# Altium schematic symbol library Converter_DCDC.SchLib: 947 symbols (part 7 of 12)
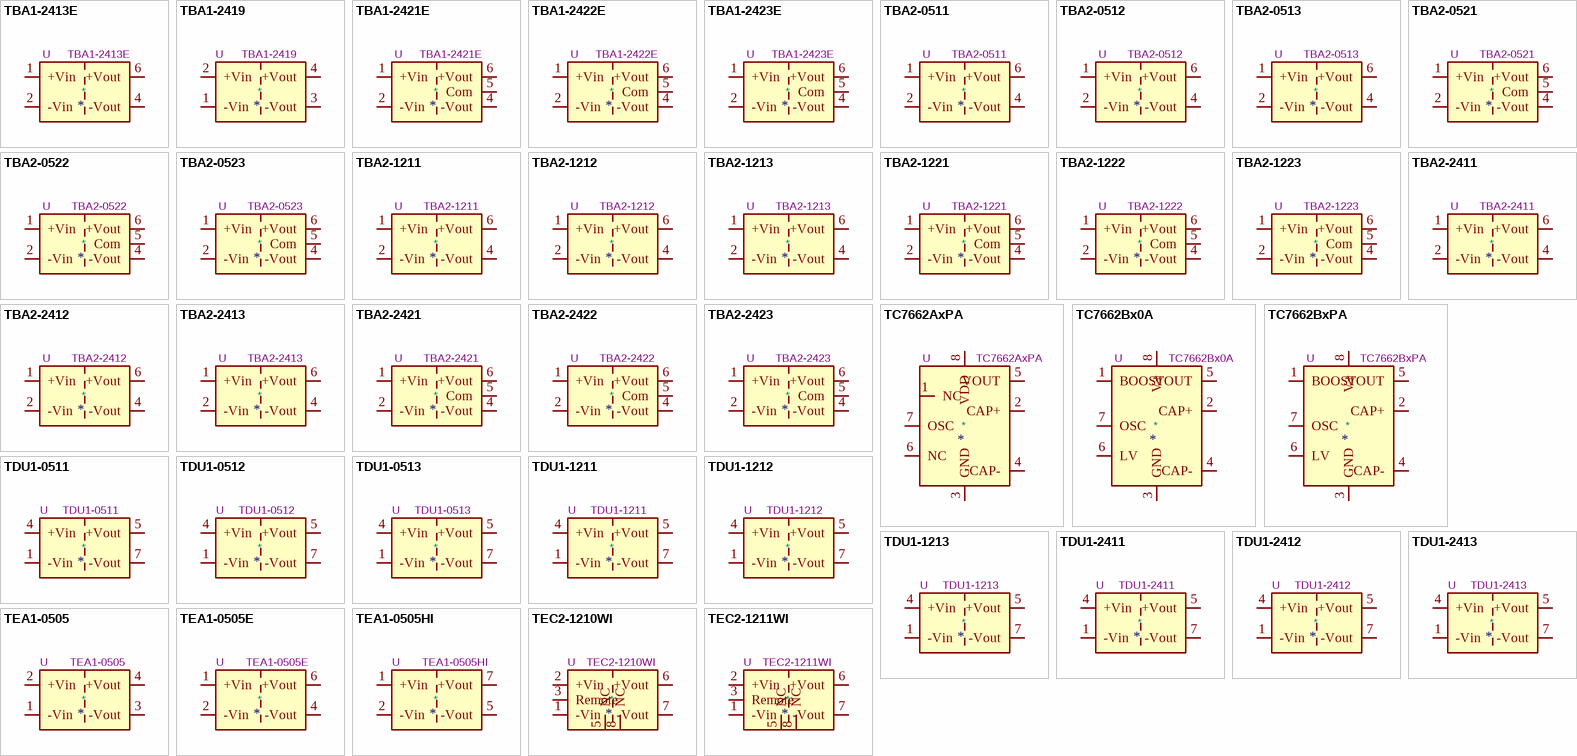
[diagram p29: symbols TBA1-2413E to TEC2-1211WI]

## TBA2-0511
designator *  value TBA2-0511  Reference: U
2W DC/DC converter unregulated, 4.5-5.5V input, 5V fixed output voltage, 400mA output, 1.5kVDC isolation, SIP-7; ki_keywords: Traco isolated isolation dc-dc converter not-regulated non-regulated single 2W; ki_fp_filters: Converter*DCDC*TRACO*TBA2*Single*; Footprint: Converter_DCDC:Converter_DCDC_TRACO_TBA2-xxxx_Single_THT; Datasheet: https://www.tracopower.com/products/tba2.pdf; Description_: 2W DC/DC converter unregulated, 4.5-5.5V input, 5V fixed output voltage, 400mA output, 1.5kVDC isolation, SIP-7
pins: 1 +Vin, 2 -Vin, 4 -Vout, 6 +Vout

## TBA2-0512
designator *  value TBA2-0512  Reference: U
2W DC/DC converter unregulated, 4.5-5.5V input, 12V fixed output voltage, 165mA output, 1.5kVDC isolation, SIP-7; ki_keywords: Traco isolated isolation dc-dc converter not-regulated non-regulated single 2W; ki_fp_filters: Converter*DCDC*TRACO*TBA2*Single*; Footprint: Converter_DCDC:Converter_DCDC_TRACO_TBA2-xxxx_Single_THT; Datasheet: https://www.tracopower.com/products/tba2.pdf; Description_: 2W DC/DC converter unregulated, 4.5-5.5V input, 12V fixed output voltage, 165mA output, 1.5kVDC isolation, SIP-7
pins: 1 +Vin, 2 -Vin, 4 -Vout, 6 +Vout

## TBA2-0513
designator *  value TBA2-0513  Reference: U
2W DC/DC converter unregulated, 4.5-5.5V input, 15V fixed output voltage, 130mA output, 1.5kVDC isolation, SIP-7; ki_keywords: Traco isolated isolation dc-dc converter not-regulated non-regulated single 2W; ki_fp_filters: Converter*DCDC*TRACO*TBA2*Single*; Footprint: Converter_DCDC:Converter_DCDC_TRACO_TBA2-xxxx_Single_THT; Datasheet: https://www.tracopower.com/products/tba2.pdf; Description_: 2W DC/DC converter unregulated, 4.5-5.5V input, 15V fixed output voltage, 130mA output, 1.5kVDC isolation, SIP-7
pins: 1 +Vin, 2 -Vin, 4 -Vout, 6 +Vout

## TBA2-0521
designator *  value TBA2-0521  Reference: U
2W DC/DC converter unregulated, 4.5-5.5V input, ±5V fixed output voltage, 200mA each output, 1.5kVDC isolation, SIP-7; ki_keywords: Traco isolated isolation dc-dc DC/DC converter not-regulated non-regulated dual 2W; ki_fp_filters: Converter*DCDC*TRACO*TBA2*Dual*; Footprint: Converter_DCDC:Converter_DCDC_TRACO_TBA2-xxxx_Dual_THT; Datasheet: https://www.tracopower.com/products/tba2.pdf; Description_: 2W DC/DC converter unregulated, 4.5-5.5V input, ±5V fixed output voltage, 200mA each output, 1.5kVDC isolation, SIP-7
pins: 1 +Vin, 2 -Vin, 4 -Vout, 5 Com, 6 +Vout

## TBA2-0522
designator *  value TBA2-0522  Reference: U
2W DC/DC converter unregulated, 4.5-5.5V input, ±12V fixed output voltage, 80mA each output, 1.5kVDC isolation, SIP-7; ki_keywords: Traco isolated isolation dc-dc DC/DC converter not-regulated non-regulated dual 2W; ki_fp_filters: Converter*DCDC*TRACO*TBA2*Dual*; Footprint: Converter_DCDC:Converter_DCDC_TRACO_TBA2-xxxx_Dual_THT; Datasheet: https://www.tracopower.com/products/tba2.pdf; Description_: 2W DC/DC converter unregulated, 4.5-5.5V input, ±12V fixed output voltage, 80mA each output, 1.5kVDC isolation, SIP-7
pins: 1 +Vin, 2 -Vin, 4 -Vout, 5 Com, 6 +Vout

## TBA2-0523
designator *  value TBA2-0523  Reference: U
2W DC/DC converter unregulated, 4.5-5.5V input, ±15V fixed output voltage, 65mA each output, 1.5kVDC isolation, SIP-7; ki_keywords: Traco isolated isolation dc-dc DC/DC converter not-regulated non-regulated dual 2W; ki_fp_filters: Converter*DCDC*TRACO*TBA2*Dual*; Footprint: Converter_DCDC:Converter_DCDC_TRACO_TBA2-xxxx_Dual_THT; Datasheet: https://www.tracopower.com/products/tba2.pdf; Description_: 2W DC/DC converter unregulated, 4.5-5.5V input, ±15V fixed output voltage, 65mA each output, 1.5kVDC isolation, SIP-7
pins: 1 +Vin, 2 -Vin, 4 -Vout, 5 Com, 6 +Vout

## TBA2-1211
designator *  value TBA2-1211  Reference: U
2W DC/DC converter unregulated, 10.8-13.2V input, 5V fixed output voltage, 400mA output, 1.5kVDC isolation, SIP-7; ki_keywords: Traco isolated isolation dc-dc converter not-regulated non-regulated single 1W; ki_fp_filters: Converter*DCDC*TRACO*TBA2*Single*; Footprint: Converter_DCDC:Converter_DCDC_TRACO_TBA2-xxxx_Single_THT; Datasheet: https://www.tracopower.com/products/tba2.pdf; Description_: 2W DC/DC converter unregulated, 10.8-13.2V input, 5V fixed output voltage, 400mA output, 1.5kVDC isolation, SIP-7
pins: 1 +Vin, 2 -Vin, 4 -Vout, 6 +Vout

## TBA2-1212
designator *  value TBA2-1212  Reference: U
2W DC/DC converter unregulated, 10.8-13.2V input, 12V fixed output voltage, 165mA output, 1.5kVDC isolation, SIP-7; ki_keywords: Traco isolated isolation dc-dc converter not-regulated non-regulated single 2W; ki_fp_filters: Converter*DCDC*TRACO*TBA2*Single*; Footprint: Converter_DCDC:Converter_DCDC_TRACO_TBA2-xxxx_Single_THT; Datasheet: https://www.tracopower.com/products/tba2.pdf; Description_: 2W DC/DC converter unregulated, 10.8-13.2V input, 12V fixed output voltage, 165mA output, 1.5kVDC isolation, SIP-7
pins: 1 +Vin, 2 -Vin, 4 -Vout, 6 +Vout

## TBA2-1213
designator *  value TBA2-1213  Reference: U
2W DC/DC converter unregulated, 10.8-13.2V input, 15V fixed output voltage, 130mA output, 1.5kVDC isolation, SIP-7; ki_keywords: Traco isolated isolation dc-dc converter not-regulated non-regulated single 2W; ki_fp_filters: Converter*DCDC*TRACO*TBA2*Single*; Footprint: Converter_DCDC:Converter_DCDC_TRACO_TBA2-xxxx_Single_THT; Datasheet: https://www.tracopower.com/products/tba2.pdf; Description_: 2W DC/DC converter unregulated, 10.8-13.2V input, 15V fixed output voltage, 130mA output, 1.5kVDC isolation, SIP-7
pins: 1 +Vin, 2 -Vin, 4 -Vout, 6 +Vout

## TBA2-1221
designator *  value TBA2-1221  Reference: U
2W DC/DC converter unregulated, 10.8-13.2V input, ±5V fixed output voltage, 200mA each output, 1.5kVDC isolation, SIP-7; ki_keywords: Traco isolated isolation dc-dc DC/DC converter not-regulated non-regulated dual 2W; ki_fp_filters: Converter*DCDC*TRACO*TBA2*Dual*; Footprint: Converter_DCDC:Converter_DCDC_TRACO_TBA2-xxxx_Dual_THT; Datasheet: https://www.tracopower.com/products/tba2.pdf; Description_: 2W DC/DC converter unregulated, 10.8-13.2V input, ±5V fixed output voltage, 200mA each output, 1.5kVDC isolation, SIP-7
pins: 1 +Vin, 2 -Vin, 4 -Vout, 5 Com, 6 +Vout

## TBA2-1222
designator *  value TBA2-1222  Reference: U
2W DC/DC converter unregulated, 10.8-13.2V input, ±12V fixed output voltage, 80mA each output, 1.5kVDC isolation, SIP-7; ki_keywords: Traco isolated isolation dc-dc DC/DC converter not-regulated non-regulated dual 2W; ki_fp_filters: Converter*DCDC*TRACO*TBA2*Dual*; Footprint: Converter_DCDC:Converter_DCDC_TRACO_TBA2-xxxx_Dual_THT; Datasheet: https://www.tracopower.com/products/tba2.pdf; Description_: 2W DC/DC converter unregulated, 10.8-13.2V input, ±12V fixed output voltage, 80mA each output, 1.5kVDC isolation, SIP-7
pins: 1 +Vin, 2 -Vin, 4 -Vout, 5 Com, 6 +Vout

## TBA2-1223
designator *  value TBA2-1223  Reference: U
2W DC/DC converter unregulated, 10.8-13.2V input, ±15V fixed output voltage, 65mA each output, 1.5kVDC isolation, SIP-7; ki_keywords: Traco isolated isolation dc-dc DC/DC converter not-regulated non-regulated dual 2W; ki_fp_filters: Converter*DCDC*TRACO*TBA2*Dual*; Footprint: Converter_DCDC:Converter_DCDC_TRACO_TBA2-xxxx_Dual_THT; Datasheet: https://www.tracopower.com/products/tba2.pdf; Description_: 2W DC/DC converter unregulated, 10.8-13.2V input, ±15V fixed output voltage, 65mA each output, 1.5kVDC isolation, SIP-7
pins: 1 +Vin, 2 -Vin, 4 -Vout, 5 Com, 6 +Vout

## TBA2-2411
designator *  value TBA2-2411  Reference: U
2W DC/DC converter unregulated, 21.6-26.4V input, 5V fixed output voltage, 400mA output, 1.5kVDC isolation, SIP-7; ki_keywords: Traco isolated isolation dc-dc converter not-regulated non-regulated single 2W; ki_fp_filters: Converter*DCDC*TRACO*TBA2*Single*; Footprint: Converter_DCDC:Converter_DCDC_TRACO_TBA2-xxxx_Single_THT; Datasheet: https://www.tracopower.com/products/tba2.pdf; Description_: 2W DC/DC converter unregulated, 21.6-26.4V input, 5V fixed output voltage, 400mA output, 1.5kVDC isolation, SIP-7
pins: 1 +Vin, 2 -Vin, 4 -Vout, 6 +Vout

## TBA2-2412
designator *  value TBA2-2412  Reference: U
2W DC/DC converter unregulated, 21.6-26.4V input, 12V fixed output voltage, 165mA output, 1.5kVDC isolation, SIP-7; ki_keywords: Traco isolated isolation dc-dc converter not-regulated non-regulated single 2W; ki_fp_filters: Converter*DCDC*TRACO*TBA2*Single*; Footprint: Converter_DCDC:Converter_DCDC_TRACO_TBA2-xxxx_Single_THT; Datasheet: https://www.tracopower.com/products/tba2.pdf; Description_: 2W DC/DC converter unregulated, 21.6-26.4V input, 12V fixed output voltage, 165mA output, 1.5kVDC isolation, SIP-7
pins: 1 +Vin, 2 -Vin, 4 -Vout, 6 +Vout

## TBA2-2413
designator *  value TBA2-2413  Reference: U
2W DC/DC converter unregulated, 21.6-26.4V input, 15V fixed output voltage, 130mA output, 1.5kVDC isolation, SIP-7; ki_keywords: Traco isolated isolation dc-dc converter not-regulated non-regulated single 2W; ki_fp_filters: Converter*DCDC*TRACO*TBA2*Single*; Footprint: Converter_DCDC:Converter_DCDC_TRACO_TBA2-xxxx_Single_THT; Datasheet: https://www.tracopower.com/products/tba2.pdf; Description_: 2W DC/DC converter unregulated, 21.6-26.4V input, 15V fixed output voltage, 130mA output, 1.5kVDC isolation, SIP-7
pins: 1 +Vin, 2 -Vin, 4 -Vout, 6 +Vout

## TBA2-2421
designator *  value TBA2-2421  Reference: U
2W DC/DC converter unregulated, 21.6-26.4V input, ±5V fixed output voltage, 200mA each output, 1.5kVDC isolation, SIP-7; ki_keywords: Traco isolated isolation dc-dc DC/DC converter not-regulated non-regulated dual 2W; ki_fp_filters: Converter*DCDC*TRACO*TBA2*Dual*; Footprint: Converter_DCDC:Converter_DCDC_TRACO_TBA2-xxxx_Dual_THT; Datasheet: https://www.tracopower.com/products/tba2.pdf; Description_: 2W DC/DC converter unregulated, 21.6-26.4V input, ±5V fixed output voltage, 200mA each output, 1.5kVDC isolation, SIP-7
pins: 1 +Vin, 2 -Vin, 4 -Vout, 5 Com, 6 +Vout

## TBA2-2422
designator *  value TBA2-2422  Reference: U
2W DC/DC converter unregulated, 21.6-26.4V input, ±12V fixed output voltage, 80mA each output, 1.5kVDC isolation, SIP-7; ki_keywords: Traco isolated isolation dc-dc DC/DC converter not-regulated non-regulated dual 2W; ki_fp_filters: Converter*DCDC*TRACO*TBA2*Dual*; Footprint: Converter_DCDC:Converter_DCDC_TRACO_TBA2-xxxx_Dual_THT; Datasheet: https://www.tracopower.com/products/tba2.pdf; Description_: 2W DC/DC converter unregulated, 21.6-26.4V input, ±12V fixed output voltage, 80mA each output, 1.5kVDC isolation, SIP-7
pins: 1 +Vin, 2 -Vin, 4 -Vout, 5 Com, 6 +Vout

## TBA2-2423
designator *  value TBA2-2423  Reference: U
2W DC/DC converter unregulated, 21.6-26.4V input, ±15V fixed output voltage, 65mA each output, 1.5kVDC isolation, SIP-7; ki_keywords: Traco isolated isolation dc-dc DC/DC converter not-regulated non-regulated dual 2W; ki_fp_filters: Converter*DCDC*TRACO*TBA2*Dual*; Footprint: Converter_DCDC:Converter_DCDC_TRACO_TBA2-xxxx_Dual_THT; Datasheet: https://www.tracopower.com/products/tba2.pdf; Description_: 2W DC/DC converter unregulated, 21.6-26.4V input, ±15V fixed output voltage, 65mA each output, 1.5kVDC isolation, SIP-7
pins: 1 +Vin, 2 -Vin, 4 -Vout, 5 Com, 6 +Vout

## TC7662AxPA
designator *  value TC7662AxPA  Reference: U
Charge Pump DC-to-DC Converter, 3 - 18V, 40mA, DIP-8; ki_fp_filters: DIP*W7.62mm*; Footprint: Package_DIP:DIP-8_W7.62mm; Datasheet: http://ww1.microchip.com/downloads/en/DeviceDoc/21468B.pdf; Description_: Charge Pump DC-to-DC Converter, 3 - 18V, 40mA, DIP-8; ki_keywords: charge pump DC-to-DC converter
pins: 1 NC, 2 CAP+, 3 GND, 4 CAP-, 5 VOUT, 6 NC, 7 OSC, 8 VDD

## TC7662Bx0A
designator *  value TC7662Bx0A  Reference: U
Charge Pump DC-to-DC Converter, 1.5 - 15V, 100mA, SOIC-8; ki_fp_filters: SOIC*3.9x4.9mm*P1.27mm*; Footprint: Package_SO:SOIC-8_3.9x4.9mm_P1.27mm; Datasheet: http://ww1.microchip.com/downloads/en/DeviceDoc/21469a.pdf; Description_: Charge Pump DC-to-DC Converter, 1.5 - 15V, 100mA, SOIC-8; ki_keywords: charge pump DC-to-DC converter
pins: 1 BOOST, 2 CAP+, 3 GND, 4 CAP-, 5 VOUT, 6 LV, 7 OSC, 8 V+

## TC7662BxPA
designator *  value TC7662BxPA  Reference: U
Charge Pump DC-to-DC Converter, 1.5 - 15V, 100mA, DIP-8; ki_fp_filters: DIP*W7.62mm*; Footprint: Package_DIP:DIP-8_W7.62mm; Datasheet: http://ww1.microchip.com/downloads/en/DeviceDoc/21469a.pdf; Description_: Charge Pump DC-to-DC Converter, 1.5 - 15V, 100mA, DIP-8; ki_keywords: charge pump DC-to-DC converter
pins: 1 BOOST, 2 CAP+, 3 GND, 4 CAP-, 5 VOUT, 6 LV, 7 OSC, 8 V+

## TDU1-0511
designator *  value TDU1-0511  Reference: U
1W DC/DC converter unregulated, 4.5-5.5V input, 5V output voltage, 200mA output, 1.5kVDC isolation, DIP-8; ki_keywords: Traco isolated isolation dc-dc converter not-regulated non-regulated single 1W; ki_fp_filters: Converter*DCDC*TRACO*TDU1*THT*; Footprint: Converter_DCDC:Converter_DCDC_TRACO_TDU1-xxxx_THT; Datasheet: https://www.tracopower.com/products/tdu1.pdf; Description_: 1W DC/DC converter unregulated, 4.5-5.5V input, 5V output voltage, 200mA output, 1.5kVDC isolation, DIP-8
pins: 1 -Vin, 4 +Vin, 5 +Vout, 7 -Vout

## TDU1-0512
designator *  value TDU1-0512  Reference: U
1W DC/DC converter unregulated, 4.5-5.5V input, 12V output voltage, 84mA output, 1.5kVDC isolation, DIP-8; ki_keywords: Traco isolated isolation dc-dc converter not-regulated non-regulated single 1W; ki_fp_filters: Converter*DCDC*TRACO*TDU1*THT*; Footprint: Converter_DCDC:Converter_DCDC_TRACO_TDU1-xxxx_THT; Datasheet: https://www.tracopower.com/products/tdu1.pdf; Description_: 1W DC/DC converter unregulated, 4.5-5.5V input, 12V output voltage, 84mA output, 1.5kVDC isolation, DIP-8
pins: 1 -Vin, 4 +Vin, 5 +Vout, 7 -Vout

## TDU1-0513
designator *  value TDU1-0513  Reference: U
1W DC/DC converter unregulated, 4.5-5.5V input, 15V output voltage, 67mA output, 1.5kVDC isolation, DIP-8; ki_keywords: Traco isolated isolation dc-dc converter not-regulated non-regulated single 1W; ki_fp_filters: Converter*DCDC*TRACO*TDU1*THT*; Footprint: Converter_DCDC:Converter_DCDC_TRACO_TDU1-xxxx_THT; Datasheet: https://www.tracopower.com/products/tdu1.pdf; Description_: 1W DC/DC converter unregulated, 4.5-5.5V input, 15V output voltage, 67mA output, 1.5kVDC isolation, DIP-8
pins: 1 -Vin, 4 +Vin, 5 +Vout, 7 -Vout

## TDU1-1211
designator *  value TDU1-1211  Reference: U
1W DC/DC converter unregulated, 10.8-13.2V input, 5V output voltage, 200mA output, 1.5kVDC isolation, DIP-8; ki_keywords: Traco isolated isolation dc-dc converter not-regulated non-regulated single 1W; ki_fp_filters: Converter*DCDC*TRACO*TDU1*THT*; Footprint: Converter_DCDC:Converter_DCDC_TRACO_TDU1-xxxx_THT; Datasheet: https://www.tracopower.com/products/tdu1.pdf; Description_: 1W DC/DC converter unregulated, 10.8-13.2V input, 5V output voltage, 200mA output, 1.5kVDC isolation, DIP-8
pins: 1 -Vin, 4 +Vin, 5 +Vout, 7 -Vout

## TDU1-1212
designator *  value TDU1-1212  Reference: U
1W DC/DC converter unregulated, 10.8-13.2V input, 12V output voltage, 84mA output, 1.5kVDC isolation, DIP-8; ki_keywords: Traco isolated isolation dc-dc converter not-regulated non-regulated single 1W; ki_fp_filters: Converter*DCDC*TRACO*TDU1*THT*; Footprint: Converter_DCDC:Converter_DCDC_TRACO_TDU1-xxxx_THT; Datasheet: https://www.tracopower.com/products/tdu1.pdf; Description_: 1W DC/DC converter unregulated, 10.8-13.2V input, 12V output voltage, 84mA output, 1.5kVDC isolation, DIP-8
pins: 1 -Vin, 4 +Vin, 5 +Vout, 7 -Vout

## TDU1-1213
designator *  value TDU1-1213  Reference: U
1W DC/DC converter unregulated, 10.8-13.2V input, 12V output voltage, 84mA output, 1.5kVDC isolation, DIP-8; ki_keywords: Traco isolated isolation dc-dc converter not-regulated non-regulated single 1W; ki_fp_filters: Converter*DCDC*TRACO*TDU1*THT*; Footprint: Converter_DCDC:Converter_DCDC_TRACO_TDU1-xxxx_THT; Datasheet: https://www.tracopower.com/products/tdu1.pdf; Description_: 1W DC/DC converter unregulated, 10.8-13.2V input, 12V output voltage, 84mA output, 1.5kVDC isolation, DIP-8
pins: 1 -Vin, 4 +Vin, 5 +Vout, 7 -Vout

## TDU1-2411
designator *  value TDU1-2411  Reference: U
1W DC/DC converter unregulated, 21.6-26.4V input, 5V output voltage, 200mA output, 1.5kVDC isolation, DIP-8; ki_keywords: Traco isolated isolation dc-dc converter not-regulated non-regulated single 1W; ki_fp_filters: Converter*DCDC*TRACO*TDU1*THT*; Footprint: Converter_DCDC:Converter_DCDC_TRACO_TDU1-xxxx_THT; Datasheet: https://www.tracopower.com/products/tdu1.pdf; Description_: 1W DC/DC converter unregulated, 21.6-26.4V input, 5V output voltage, 200mA output, 1.5kVDC isolation, DIP-8
pins: 1 -Vin, 4 +Vin, 5 +Vout, 7 -Vout

## TDU1-2412
designator *  value TDU1-2412  Reference: U
1W DC/DC converter unregulated, 21.6-26.4V input, 12V output voltage, 84mA output, 1.5kVDC isolation, DIP-8; ki_keywords: Traco isolated isolation dc-dc converter not-regulated non-regulated single 1W; ki_fp_filters: Converter*DCDC*TRACO*TDU1*THT*; Footprint: Converter_DCDC:Converter_DCDC_TRACO_TDU1-xxxx_THT; Datasheet: https://www.tracopower.com/products/tdu1.pdf; Description_: 1W DC/DC converter unregulated, 21.6-26.4V input, 12V output voltage, 84mA output, 1.5kVDC isolation, DIP-8
pins: 1 -Vin, 4 +Vin, 5 +Vout, 7 -Vout

## TDU1-2413
designator *  value TDU1-2413  Reference: U
1W DC/DC converter unregulated, 21.6-26.4V input, 15V output voltage, 67mA output, 1.5kVDC isolation, DIP-8; ki_keywords: Traco isolated isolation dc-dc converter not-regulated non-regulated single 1W; ki_fp_filters: Converter*DCDC*TRACO*TDU1*THT*; Footprint: Converter_DCDC:Converter_DCDC_TRACO_TDU1-xxxx_THT; Datasheet: https://www.tracopower.com/products/tdu1.pdf; Description_: 1W DC/DC converter unregulated, 21.6-26.4V input, 15V output voltage, 67mA output, 1.5kVDC isolation, DIP-8
pins: 1 -Vin, 4 +Vin, 5 +Vout, 7 -Vout

## TEA1-0505
designator *  value TEA1-0505  Reference: U
1W DC/DC converter unregulated, 4.5-5.5V input, 5V output voltage, 200mA output, 1.5kVDC isolation, SIP-4; ki_keywords: Traco isolated isolation dc-dc converter not-regulated non-regulated single 1W; ki_fp_filters: Converter*DCDC*TRACO*TEA1*THT*; Footprint: Converter_DCDC:Converter_DCDC_TRACO_TEA1-xxxx_THT; Datasheet: https://www.tracopower.com/products/tea1.pdf; Description_: 1W DC/DC converter unregulated, 4.5-5.5V input, 5V output voltage, 200mA output, 1.5kVDC isolation, SIP-4
pins: 1 -Vin, 2 +Vin, 3 -Vout, 4 +Vout

## TEA1-0505E
designator *  value TEA1-0505E  Reference: U
1W DC/DC converter unregulated, 4.5-5.5V input, 5V output voltage, 200mA output, 1.5kVDC isolation, SIP-7; ki_keywords: Traco isolated isolation dc-dc converter not-regulated non-regulated single 1W; ki_fp_filters: Converter*DCDC*TRACO*TEA1*xxxxE*THT*; Footprint: Converter_DCDC:Converter_DCDC_TRACO_TEA1-xxxxE_THT; Datasheet: https://www.tracopower.com/products/tea1e.pdf; Description_: 1W DC/DC converter unregulated, 4.5-5.5V input, 5V output voltage, 200mA output, 1.5kVDC isolation, SIP-7
pins: 1 +Vin, 2 -Vin, 4 -Vout, 6 +Vout

## TEA1-0505HI
designator *  value TEA1-0505HI  Reference: U
1W DC/DC converter unregulated, 4.5-5.5V input, 5V output voltage, 200mA output, 4kVDC isolation, SIP-7; ki_keywords: Traco isolated isolation dc-dc converter not-regulated non-regulated single 1W; ki_fp_filters: Converter*DCDC*TRACO*TEA1*xxxxHI*THT*; Footprint: Converter_DCDC:Converter_DCDC_TRACO_TEA1-xxxxHI_THT; Datasheet: https://www.tracopower.com/products/tea1hi.pdf; Description_: 1W DC/DC converter unregulated, 4.5-5.5V input, 5V output voltage, 200mA output, 4kVDC isolation, SIP-7
pins: 1 +Vin, 2 -Vin, 5 -Vout, 7 +Vout

## TEC2-1210WI
designator *  value TEC2-1210WI  Reference: U
2W DC/DC industrial converter regulated, 4.5-18V input, 3.3V fixed output voltage, 500mA output, 1.6kVDC isolation, SIP-8; ki_keywords: Traco isolated dc-dc 62368-1 single; ki_fp_filters: Converter*DCDC*TRACO*TEC2*12xxWI*24xxWI*48xxWI*THT*; Footprint: Converter_DCDC:Converter_DCDC_TRACO_TEC2-12xxWI_24xxWI_48xxWI_THT; Datasheet: https://www.tracopower.com/products/tec2wi.pdf; Description_: 2W DC/DC industrial converter regulated, 4.5-18V input, 3.3V fixed output voltage, 500mA output, 1.6kVDC isolation, SIP-8
pins: 1 -Vin, 2 +Vin, 3 Remote, 5 NC, 6 +Vout, 7 -Vout, 8 NC

## TEC2-1211WI
designator *  value TEC2-1211WI  Reference: U
2W DC/DC industrial converter regulated, 4.5-18V input, 5V fixed output voltage, 400mA output, 1.6kVDC isolation, SIP-8; ki_keywords: Traco isolated dc-dc 62368-1 single; ki_fp_filters: Converter*DCDC*TRACO*TEC2*12xxWI*24xxWI*48xxWI*THT*; Footprint: Converter_DCDC:Converter_DCDC_TRACO_TEC2-12xxWI_24xxWI_48xxWI_THT; Datasheet: https://www.tracopower.com/products/tec2wi.pdf; Description_: 2W DC/DC industrial converter regulated, 4.5-18V input, 5V fixed output voltage, 400mA output, 1.6kVDC isolation, SIP-8
pins: 1 -Vin, 2 +Vin, 3 Remote, 5 NC, 6 +Vout, 7 -Vout, 8 NC

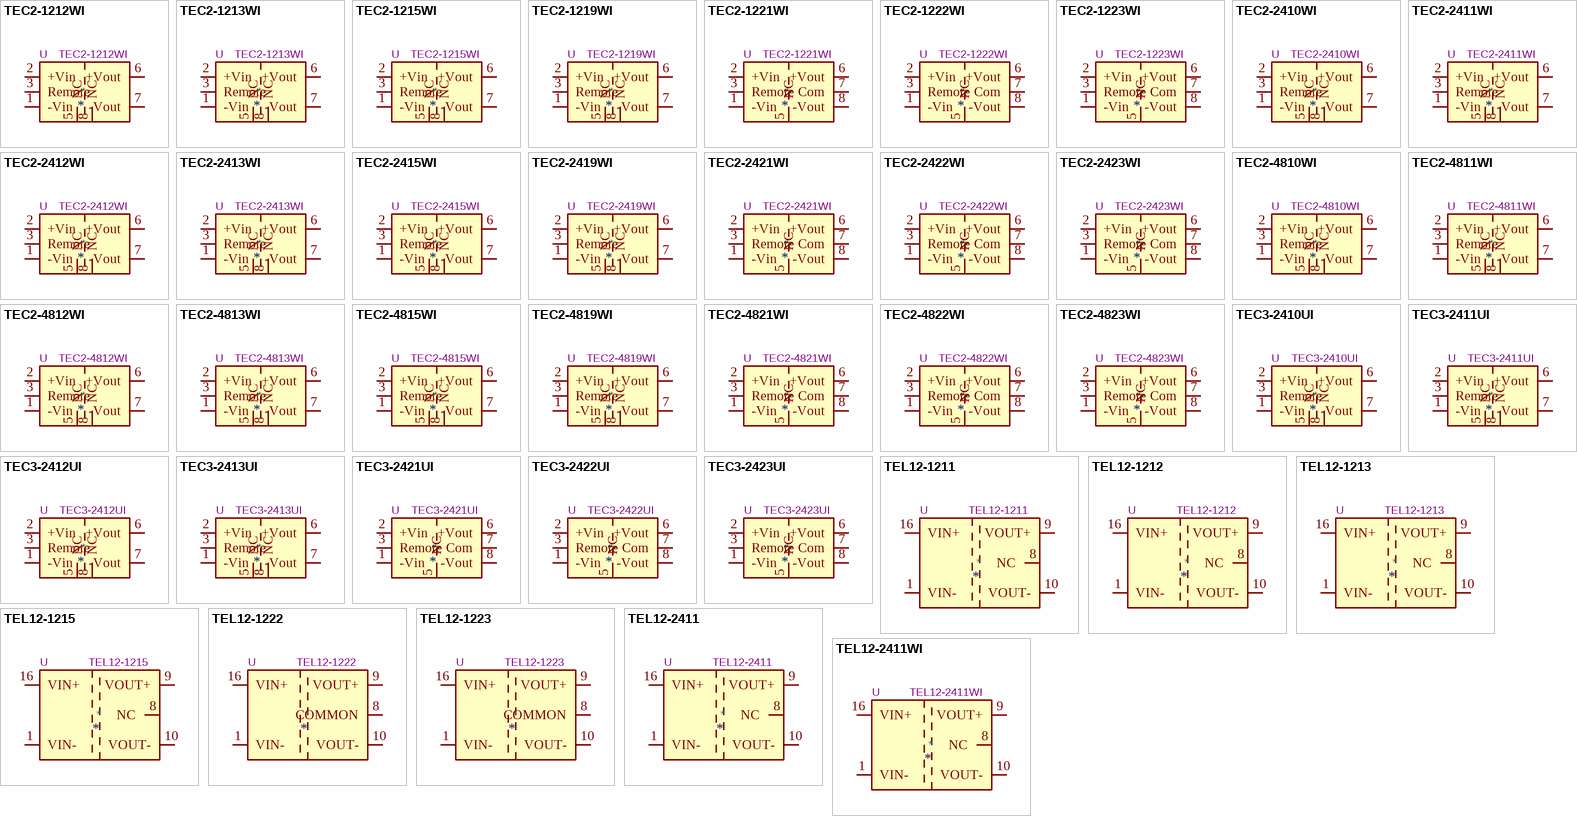
[diagram p14: symbols TEC2-1212WI to TEL12-2411WI]

## TEC2-1212WI
designator *  value TEC2-1212WI  Reference: U
2W DC/DC industrial converter regulated, 4.5-18V input, 12V fixed output voltage, 167mA output, 1.6kVDC isolation, SIP-8; ki_keywords: Traco isolated dc-dc 62368-1 single; ki_fp_filters: Converter*DCDC*TRACO*TEC2*12xxWI*24xxWI*48xxWI*THT*; Footprint: Converter_DCDC:Converter_DCDC_TRACO_TEC2-12xxWI_24xxWI_48xxWI_THT; Datasheet: https://www.tracopower.com/products/tec2wi.pdf; Description_: 2W DC/DC industrial converter regulated, 4.5-18V input, 12V fixed output voltage, 167mA output, 1.6kVDC isolation, SIP-8
pins: 1 -Vin, 2 +Vin, 3 Remote, 5 NC, 6 +Vout, 7 -Vout, 8 NC

## TEC2-1213WI
designator *  value TEC2-1213WI  Reference: U
2W DC/DC industrial converter regulated, 4.5-18V input, 15V fixed output voltage, 134mA output, 1.6kVDC isolation, SIP-8; ki_keywords: Traco isolated dc-dc 62368-1 single; ki_fp_filters: Converter*DCDC*TRACO*TEC2*12xxWI*24xxWI*48xxWI*THT*; Footprint: Converter_DCDC:Converter_DCDC_TRACO_TEC2-12xxWI_24xxWI_48xxWI_THT; Datasheet: https://www.tracopower.com/products/tec2wi.pdf; Description_: 2W DC/DC industrial converter regulated, 4.5-18V input, 15V fixed output voltage, 134mA output, 1.6kVDC isolation, SIP-8
pins: 1 -Vin, 2 +Vin, 3 Remote, 5 NC, 6 +Vout, 7 -Vout, 8 NC

## TEC2-1215WI
designator *  value TEC2-1215WI  Reference: U
2W DC/DC industrial converter regulated, 4.5-18V input, 3.3V fixed output voltage, 83mA output, 1.6kVDC isolation, SIP-8; ki_keywords: Traco isolated dc-dc 62368-1 single; ki_fp_filters: Converter*DCDC*TRACO*TEC2*12xxWI*24xxWI*48xxWI*THT*; Footprint: Converter_DCDC:Converter_DCDC_TRACO_TEC2-12xxWI_24xxWI_48xxWI_THT; Datasheet: https://www.tracopower.com/products/tec2wi.pdf; Description_: 2W DC/DC industrial converter regulated, 4.5-18V input, 3.3V fixed output voltage, 83mA output, 1.6kVDC isolation, SIP-8
pins: 1 -Vin, 2 +Vin, 3 Remote, 5 NC, 6 +Vout, 7 -Vout, 8 NC

## TEC2-1219WI
designator *  value TEC2-1219WI  Reference: U
2W DC/DC industrial converter regulated, 4.5-18V input, 9V fixed output voltage, 222mA output, 1.6kVDC isolation, SIP-8; ki_keywords: Traco isolated dc-dc 62368-1 single; ki_fp_filters: Converter*DCDC*TRACO*TEC2*12xxWI*24xxWI*48xxWI*THT*; Footprint: Converter_DCDC:Converter_DCDC_TRACO_TEC2-12xxWI_24xxWI_48xxWI_THT; Datasheet: https://www.tracopower.com/products/tec2wi.pdf; Description_: 2W DC/DC industrial converter regulated, 4.5-18V input, 9V fixed output voltage, 222mA output, 1.6kVDC isolation, SIP-8
pins: 1 -Vin, 2 +Vin, 3 Remote, 5 NC, 6 +Vout, 7 -Vout, 8 NC

## TEC2-1221WI
designator *  value TEC2-1221WI  Reference: U
2W DC/DC industrial converter regulated, 4.5-18V input, ±5V fixed output voltage, 200mA each output, 1.6kVDC isolation, SIP-8; ki_keywords: Traco isolated dc-dc 62368-1 dual; ki_fp_filters: Converter*DCDC*TRACO*TEC2*12xxWI*24xxWI*48xxWI*THT*; Footprint: Converter_DCDC:Converter_DCDC_TRACO_TEC2-12xxWI_24xxWI_48xxWI_THT; Datasheet: https://www.tracopower.com/products/tec2wi.pdf; Description_: 2W DC/DC industrial converter regulated, 4.5-18V input, ±5V fixed output voltage, 200mA each output, 1.6kVDC isolation, SIP-8
pins: 1 -Vin, 2 +Vin, 3 Remote, 5 NC, 6 +Vout, 7 Com, 8 -Vout

## TEC2-1222WI
designator *  value TEC2-1222WI  Reference: U
2W DC/DC industrial converter regulated, 4.5-18V input, ±12V fixed output voltage, 83mA each output, 1.6kVDC isolation, SIP-8; ki_keywords: Traco isolated dc-dc 62368-1 dual; ki_fp_filters: Converter*DCDC*TRACO*TEC2*12xxWI*24xxWI*48xxWI*THT*; Footprint: Converter_DCDC:Converter_DCDC_TRACO_TEC2-12xxWI_24xxWI_48xxWI_THT; Datasheet: https://www.tracopower.com/products/tec2wi.pdf; Description_: 2W DC/DC industrial converter regulated, 4.5-18V input, ±12V fixed output voltage, 83mA each output, 1.6kVDC isolation, SIP-8
pins: 1 -Vin, 2 +Vin, 3 Remote, 5 NC, 6 +Vout, 7 Com, 8 -Vout

## TEC2-1223WI
designator *  value TEC2-1223WI  Reference: U
2W DC/DC industrial converter regulated, 4.5-18V input, ±15V fixed output voltage, 67mA each output, 1.6kVDC isolation, SIP-8; ki_keywords: Traco isolated dc-dc 62368-1 dual; ki_fp_filters: Converter*DCDC*TRACO*TEC2*12xxWI*24xxWI*48xxWI*THT*; Footprint: Converter_DCDC:Converter_DCDC_TRACO_TEC2-12xxWI_24xxWI_48xxWI_THT; Datasheet: https://www.tracopower.com/products/tec2wi.pdf; Description_: 2W DC/DC industrial converter regulated, 4.5-18V input, ±15V fixed output voltage, 67mA each output, 1.6kVDC isolation, SIP-8
pins: 1 -Vin, 2 +Vin, 3 Remote, 5 NC, 6 +Vout, 7 Com, 8 -Vout

## TEC2-2410WI
designator *  value TEC2-2410WI  Reference: U
2W DC/DC industrial converter regulated, 9-36V input, 3.3V fixed output voltage, 500mA output, 1.6kVDC isolation, SIP-8; ki_keywords: Traco isolated dc-dc 62368-1 single; ki_fp_filters: Converter*DCDC*TRACO*TEC2*12xxWI*24xxWI*48xxWI*THT*; Footprint: Converter_DCDC:Converter_DCDC_TRACO_TEC2-12xxWI_24xxWI_48xxWI_THT; Datasheet: https://www.tracopower.com/products/tec2wi.pdf; Description_: 2W DC/DC industrial converter regulated, 9-36V input, 3.3V fixed output voltage, 500mA output, 1.6kVDC isolation, SIP-8
pins: 1 -Vin, 2 +Vin, 3 Remote, 5 NC, 6 +Vout, 7 -Vout, 8 NC

## TEC2-2411WI
designator *  value TEC2-2411WI  Reference: U
2W DC/DC industrial converter regulated, 9-36V input, 5V fixed output voltage, 400mA output, 1.6kVDC isolation, SIP-8; ki_keywords: Traco isolated dc-dc 62368-1 single; ki_fp_filters: Converter*DCDC*TRACO*TEC2*12xxWI*24xxWI*48xxWI*THT*; Footprint: Converter_DCDC:Converter_DCDC_TRACO_TEC2-12xxWI_24xxWI_48xxWI_THT; Datasheet: https://www.tracopower.com/products/tec2wi.pdf; Description_: 2W DC/DC industrial converter regulated, 9-36V input, 5V fixed output voltage, 400mA output, 1.6kVDC isolation, SIP-8
pins: 1 -Vin, 2 +Vin, 3 Remote, 5 NC, 6 +Vout, 7 -Vout, 8 NC

## TEC2-2412WI
designator *  value TEC2-2412WI  Reference: U
2W DC/DC industrial converter regulated, 9-36V input, 12V fixed output voltage, 167mA output, 1.6kVDC isolation, SIP-8; ki_keywords: Traco isolated dc-dc 62368-1 single; ki_fp_filters: Converter*DCDC*TRACO*TEC2*12xxWI*24xxWI*48xxWI*THT*; Footprint: Converter_DCDC:Converter_DCDC_TRACO_TEC2-12xxWI_24xxWI_48xxWI_THT; Datasheet: https://www.tracopower.com/products/tec2wi.pdf; Description_: 2W DC/DC industrial converter regulated, 9-36V input, 12V fixed output voltage, 167mA output, 1.6kVDC isolation, SIP-8
pins: 1 -Vin, 2 +Vin, 3 Remote, 5 NC, 6 +Vout, 7 -Vout, 8 NC

## TEC2-2413WI
designator *  value TEC2-2413WI  Reference: U
2W DC/DC industrial converter regulated, 9-36V input, 15V fixed output voltage, 134mA output, 1.6kVDC isolation, SIP-8; ki_keywords: Traco isolated dc-dc 62368-1 single; ki_fp_filters: Converter*DCDC*TRACO*TEC2*12xxWI*24xxWI*48xxWI*THT*; Footprint: Converter_DCDC:Converter_DCDC_TRACO_TEC2-12xxWI_24xxWI_48xxWI_THT; Datasheet: https://www.tracopower.com/products/tec2wi.pdf; Description_: 2W DC/DC industrial converter regulated, 9-36V input, 15V fixed output voltage, 134mA output, 1.6kVDC isolation, SIP-8
pins: 1 -Vin, 2 +Vin, 3 Remote, 5 NC, 6 +Vout, 7 -Vout, 8 NC

## TEC2-2415WI
designator *  value TEC2-2415WI  Reference: U
2W DC/DC industrial converter regulated, 9-36V input, 24V fixed output voltage, 83mA output, 1.6kVDC isolation, SIP-8; ki_keywords: Traco isolated dc-dc 62368-1 single; ki_fp_filters: Converter*DCDC*TRACO*TEC2*12xxWI*24xxWI*48xxWI*THT*; Footprint: Converter_DCDC:Converter_DCDC_TRACO_TEC2-12xxWI_24xxWI_48xxWI_THT; Datasheet: https://www.tracopower.com/products/tec2wi.pdf; Description_: 2W DC/DC industrial converter regulated, 9-36V input, 24V fixed output voltage, 83mA output, 1.6kVDC isolation, SIP-8
pins: 1 -Vin, 2 +Vin, 3 Remote, 5 NC, 6 +Vout, 7 -Vout, 8 NC

## TEC2-2419WI
designator *  value TEC2-2419WI  Reference: U
2W DC/DC industrial converter regulated, 9-36V input, 9V fixed output voltage, 222mA output, 1.6kVDC isolation, SIP-8; ki_keywords: Traco isolated dc-dc 62368-1 single; ki_fp_filters: Converter*DCDC*TRACO*TEC2*12xxWI*24xxWI*48xxWI*THT*; Footprint: Converter_DCDC:Converter_DCDC_TRACO_TEC2-12xxWI_24xxWI_48xxWI_THT; Datasheet: https://www.tracopower.com/products/tec2wi.pdf; Description_: 2W DC/DC industrial converter regulated, 9-36V input, 9V fixed output voltage, 222mA output, 1.6kVDC isolation, SIP-8
pins: 1 -Vin, 2 +Vin, 3 Remote, 5 NC, 6 +Vout, 7 -Vout, 8 NC

## TEC2-2421WI
designator *  value TEC2-2421WI  Reference: U
2W DC/DC industrial converter regulated, 9-36V input, ±5V fixed output voltage, 200mA each output, 1.6kVDC isolation, SIP-8; ki_keywords: Traco isolated dc-dc 62368-1 dual; ki_fp_filters: Converter*DCDC*TRACO*TEC2*12xxWI*24xxWI*48xxWI*THT*; Footprint: Converter_DCDC:Converter_DCDC_TRACO_TEC2-12xxWI_24xxWI_48xxWI_THT; Datasheet: https://www.tracopower.com/products/tec2wi.pdf; Description_: 2W DC/DC industrial converter regulated, 9-36V input, ±5V fixed output voltage, 200mA each output, 1.6kVDC isolation, SIP-8
pins: 1 -Vin, 2 +Vin, 3 Remote, 5 NC, 6 +Vout, 7 Com, 8 -Vout

## TEC2-2422WI
designator *  value TEC2-2422WI  Reference: U
2W DC/DC industrial converter regulated, 9-36V input, ±12V fixed output voltage, 83mA each output, 1.6kVDC isolation, SIP-8; ki_keywords: Traco isolated dc-dc 62368-1 dual; ki_fp_filters: Converter*DCDC*TRACO*TEC2*12xxWI*24xxWI*48xxWI*THT*; Footprint: Converter_DCDC:Converter_DCDC_TRACO_TEC2-12xxWI_24xxWI_48xxWI_THT; Datasheet: https://www.tracopower.com/products/tec2wi.pdf; Description_: 2W DC/DC industrial converter regulated, 9-36V input, ±12V fixed output voltage, 83mA each output, 1.6kVDC isolation, SIP-8
pins: 1 -Vin, 2 +Vin, 3 Remote, 5 NC, 6 +Vout, 7 Com, 8 -Vout

## TEC2-2423WI
designator *  value TEC2-2423WI  Reference: U
2W DC/DC industrial converter regulated, 9-36V input, ±15V fixed output voltage, 67mA each output, 1.6kVDC isolation, SIP-8; ki_keywords: Traco isolated dc-dc 62368-1 dual; ki_fp_filters: Converter*DCDC*TRACO*TEC2*12xxWI*24xxWI*48xxWI*THT*; Footprint: Converter_DCDC:Converter_DCDC_TRACO_TEC2-12xxWI_24xxWI_48xxWI_THT; Datasheet: https://www.tracopower.com/products/tec2wi.pdf; Description_: 2W DC/DC industrial converter regulated, 9-36V input, ±15V fixed output voltage, 67mA each output, 1.6kVDC isolation, SIP-8
pins: 1 -Vin, 2 +Vin, 3 Remote, 5 NC, 6 +Vout, 7 Com, 8 -Vout

## TEC2-4810WI
designator *  value TEC2-4810WI  Reference: U
2W DC/DC industrial converter regulated, 18-75V input, 3.3V fixed output voltage, 500mA output, 1.6kVDC isolation, SIP-8; ki_keywords: Traco isolated dc-dc 62368-1 single; ki_fp_filters: Converter*DCDC*TRACO*TEC2*12xxWI*24xxWI*48xxWI*THT*; Footprint: Converter_DCDC:Converter_DCDC_TRACO_TEC2-12xxWI_24xxWI_48xxWI_THT; Datasheet: https://www.tracopower.com/products/tec2wi.pdf; Description_: 2W DC/DC industrial converter regulated, 18-75V input, 3.3V fixed output voltage, 500mA output, 1.6kVDC isolation, SIP-8
pins: 1 -Vin, 2 +Vin, 3 Remote, 5 NC, 6 +Vout, 7 -Vout, 8 NC

## TEC2-4811WI
designator *  value TEC2-4811WI  Reference: U
2W DC/DC industrial converter regulated, 18-75V input, 5V fixed output voltage, 400mA output, 1.6kVDC isolation, SIP-8; ki_keywords: Traco isolated dc-dc 62368-1 single; ki_fp_filters: Converter*DCDC*TRACO*TEC2*12xxWI*24xxWI*48xxWI*THT*; Footprint: Converter_DCDC:Converter_DCDC_TRACO_TEC2-12xxWI_24xxWI_48xxWI_THT; Datasheet: https://www.tracopower.com/products/tec2wi.pdf; Description_: 2W DC/DC industrial converter regulated, 18-75V input, 5V fixed output voltage, 400mA output, 1.6kVDC isolation, SIP-8
pins: 1 -Vin, 2 +Vin, 3 Remote, 5 NC, 6 +Vout, 7 -Vout, 8 NC

## TEC2-4812WI
designator *  value TEC2-4812WI  Reference: U
2W DC/DC industrial converter regulated, 18-75V input, 12V fixed output voltage, 167mA output, 1.6kVDC isolation, SIP-8; ki_keywords: Traco isolated dc-dc 62368-1 single; ki_fp_filters: Converter*DCDC*TRACO*TEC2*12xxWI*24xxWI*48xxWI*THT*; Footprint: Converter_DCDC:Converter_DCDC_TRACO_TEC2-12xxWI_24xxWI_48xxWI_THT; Datasheet: https://www.tracopower.com/products/tec2wi.pdf; Description_: 2W DC/DC industrial converter regulated, 18-75V input, 12V fixed output voltage, 167mA output, 1.6kVDC isolation, SIP-8
pins: 1 -Vin, 2 +Vin, 3 Remote, 5 NC, 6 +Vout, 7 -Vout, 8 NC

## TEC2-4813WI
designator *  value TEC2-4813WI  Reference: U
2W DC/DC industrial converter regulated, 18-75V input, 15V fixed output voltage, 134mA output, 1.6kVDC isolation, SIP-8; ki_keywords: Traco isolated dc-dc 62368-1 single; ki_fp_filters: Converter*DCDC*TRACO*TEC2*12xxWI*24xxWI*48xxWI*THT*; Footprint: Converter_DCDC:Converter_DCDC_TRACO_TEC2-12xxWI_24xxWI_48xxWI_THT; Datasheet: https://www.tracopower.com/products/tec2wi.pdf; Description_: 2W DC/DC industrial converter regulated, 18-75V input, 15V fixed output voltage, 134mA output, 1.6kVDC isolation, SIP-8
pins: 1 -Vin, 2 +Vin, 3 Remote, 5 NC, 6 +Vout, 7 -Vout, 8 NC

## TEC2-4815WI
designator *  value TEC2-4815WI  Reference: U
2W DC/DC industrial converter regulated, 18-75V input, 24V fixed output voltage, 83mA output, 1.6kVDC isolation, SIP-8; ki_keywords: Traco isolated dc-dc 62368-1 single; ki_fp_filters: Converter*DCDC*TRACO*TEC2*12xxWI*24xxWI*48xxWI*THT*; Footprint: Converter_DCDC:Converter_DCDC_TRACO_TEC2-12xxWI_24xxWI_48xxWI_THT; Datasheet: https://www.tracopower.com/products/tec2wi.pdf; Description_: 2W DC/DC industrial converter regulated, 18-75V input, 24V fixed output voltage, 83mA output, 1.6kVDC isolation, SIP-8
pins: 1 -Vin, 2 +Vin, 3 Remote, 5 NC, 6 +Vout, 7 -Vout, 8 NC

## TEC2-4819WI
designator *  value TEC2-4819WI  Reference: U
2W DC/DC industrial converter regulated, 18-75V input, 9V fixed output voltage, 222mA output, 1.6kVDC isolation, SIP-8; ki_keywords: Traco isolated dc-dc 62368-1 single; ki_fp_filters: Converter*DCDC*TRACO*TEC2*12xxWI*24xxWI*48xxWI*THT*; Footprint: Converter_DCDC:Converter_DCDC_TRACO_TEC2-12xxWI_24xxWI_48xxWI_THT; Datasheet: https://www.tracopower.com/products/tec2wi.pdf; Description_: 2W DC/DC industrial converter regulated, 18-75V input, 9V fixed output voltage, 222mA output, 1.6kVDC isolation, SIP-8
pins: 1 -Vin, 2 +Vin, 3 Remote, 5 NC, 6 +Vout, 7 -Vout, 8 NC

## TEC2-4821WI
designator *  value TEC2-4821WI  Reference: U
2W DC/DC industrial converter regulated, 18-75V input, ±5V fixed output voltage, 200mA each output, 1.6kVDC isolation, SIP-8; ki_keywords: Traco isolated dc-dc 62368-1 dual; ki_fp_filters: Converter*DCDC*TRACO*TEC2*12xxWI*24xxWI*48xxWI*THT*; Footprint: Converter_DCDC:Converter_DCDC_TRACO_TEC2-12xxWI_24xxWI_48xxWI_THT; Datasheet: https://www.tracopower.com/products/tec2wi.pdf; Description_: 2W DC/DC industrial converter regulated, 18-75V input, ±5V fixed output voltage, 200mA each output, 1.6kVDC isolation, SIP-8
pins: 1 -Vin, 2 +Vin, 3 Remote, 5 NC, 6 +Vout, 7 Com, 8 -Vout

## TEC2-4822WI
designator *  value TEC2-4822WI  Reference: U
2W DC/DC industrial converter regulated, 18-75V input, ±12V fixed output voltage, 83mA each output, 1.6kVDC isolation, SIP-8; ki_keywords: Traco isolated dc-dc 62368-1 dual; ki_fp_filters: Converter*DCDC*TRACO*TEC2*12xxWI*24xxWI*48xxWI*THT*; Footprint: Converter_DCDC:Converter_DCDC_TRACO_TEC2-12xxWI_24xxWI_48xxWI_THT; Datasheet: https://www.tracopower.com/products/tec2wi.pdf; Description_: 2W DC/DC industrial converter regulated, 18-75V input, ±12V fixed output voltage, 83mA each output, 1.6kVDC isolation, SIP-8
pins: 1 -Vin, 2 +Vin, 3 Remote, 5 NC, 6 +Vout, 7 Com, 8 -Vout

## TEC2-4823WI
designator *  value TEC2-4823WI  Reference: U
2W DC/DC industrial converter regulated, 18-75V input, ±15V fixed output voltage, 67mA each output, 1.6kVDC isolation, SIP-8; ki_keywords: Traco isolated dc-dc 62368-1 dual; ki_fp_filters: Converter*DCDC*TRACO*TEC2*12xxWI*24xxWI*48xxWI*THT*; Footprint: Converter_DCDC:Converter_DCDC_TRACO_TEC2-12xxWI_24xxWI_48xxWI_THT; Datasheet: https://www.tracopower.com/products/tec2wi.pdf; Description_: 2W DC/DC industrial converter regulated, 18-75V input, ±15V fixed output voltage, 67mA each output, 1.6kVDC isolation, SIP-8
pins: 1 -Vin, 2 +Vin, 3 Remote, 5 NC, 6 +Vout, 7 Com, 8 -Vout

## TEC3-2410UI
designator *  value TEC3-2410UI  Reference: U
3W DC/DC industrial converter regulated, 9-75V input, 3.3V fixed output voltage, 700mA output, 2.0kVDC isolation, SIP-8; ki_keywords: Traco isolated dc-dc 62368-1 single; ki_fp_filters: Converter*DCDC*TRACO*TEC3*24xxUI*THT*; Footprint: Converter_DCDC:Converter_DCDC_TRACO_TEC3-24xxUI_THT; Datasheet: https://www.tracopower.com/products/tec3ui.pdf; Description_: 3W DC/DC industrial converter regulated, 9-75V input, 3.3V fixed output voltage, 700mA output, 2.0kVDC isolation, SIP-8
pins: 1 -Vin, 2 +Vin, 3 Remote, 5 NC, 6 +Vout, 7 -Vout, 8 NC

## TEC3-2411UI
designator *  value TEC3-2411UI  Reference: U
3W DC/DC industrial converter regulated, 9-75V input, 5V fixed output voltage, 600mA output, 2.0kVDC isolation, SIP-8; ki_keywords: Traco isolated dc-dc 62368-1 single; ki_fp_filters: Converter*DCDC*TRACO*TEC3*24xxUI*THT*; Footprint: Converter_DCDC:Converter_DCDC_TRACO_TEC3-24xxUI_THT; Datasheet: https://www.tracopower.com/products/tec3ui.pdf; Description_: 3W DC/DC industrial converter regulated, 9-75V input, 5V fixed output voltage, 600mA output, 2.0kVDC isolation, SIP-8
pins: 1 -Vin, 2 +Vin, 3 Remote, 5 NC, 6 +Vout, 7 -Vout, 8 NC

## TEC3-2412UI
designator *  value TEC3-2412UI  Reference: U
3W DC/DC industrial converter regulated, 9-75V input, 12V fixed output voltage, 250mA output, 2.0kVDC isolation, SIP-8; ki_keywords: Traco isolated dc-dc 62368-1 single; ki_fp_filters: Converter*DCDC*TRACO*TEC3*24xxUI*THT*; Footprint: Converter_DCDC:Converter_DCDC_TRACO_TEC3-24xxUI_THT; Datasheet: https://www.tracopower.com/products/tec3ui.pdf; Description_: 3W DC/DC industrial converter regulated, 9-75V input, 12V fixed output voltage, 250mA output, 2.0kVDC isolation, SIP-8
pins: 1 -Vin, 2 +Vin, 3 Remote, 5 NC, 6 +Vout, 7 -Vout, 8 NC

## TEC3-2413UI
designator *  value TEC3-2413UI  Reference: U
3W DC/DC industrial converter regulated, 9-75V input, 15V fixed output voltage, 200mA output, 2.0kVDC isolation, SIP-8; ki_keywords: Traco isolated dc-dc 62368-1 single; ki_fp_filters: Converter*DCDC*TRACO*TEC3*24xxUI*THT*; Footprint: Converter_DCDC:Converter_DCDC_TRACO_TEC3-24xxUI_THT; Datasheet: https://www.tracopower.com/products/tec3ui.pdf; Description_: 3W DC/DC industrial converter regulated, 9-75V input, 15V fixed output voltage, 200mA output, 2.0kVDC isolation, SIP-8
pins: 1 -Vin, 2 +Vin, 3 Remote, 5 NC, 6 +Vout, 7 -Vout, 8 NC

## TEC3-2421UI
designator *  value TEC3-2421UI  Reference: U
3W DC/DC industrial converter regulated, 9-75V input, ±5V fixed output voltage, 300mA each output, 2.0kVDC isolation, SIP-8; ki_keywords: Traco isolated dc-dc 62368-1 dual; ki_fp_filters: Converter*DCDC*TRACO*TEC3*24xxUI*THT*; Footprint: Converter_DCDC:Converter_DCDC_TRACO_TEC3-24xxUI_THT; Datasheet: https://www.tracopower.com/products/tec3ui.pdf; Description_: 3W DC/DC industrial converter regulated, 9-75V input, ±5V fixed output voltage, 300mA each output, 2.0kVDC isolation, SIP-8
pins: 1 -Vin, 2 +Vin, 3 Remote, 5 NC, 6 +Vout, 7 Com, 8 -Vout

## TEC3-2422UI
designator *  value TEC3-2422UI  Reference: U
3W DC/DC industrial converter regulated, 9-75V input, ±12V fixed output voltage, 125mA each output, 2.0kVDC isolation, SIP-8; ki_keywords: Traco isolated dc-dc 62368-1 dual; ki_fp_filters: Converter*DCDC*TRACO*TEC3*24xxUI*THT*; Footprint: Converter_DCDC:Converter_DCDC_TRACO_TEC3-24xxUI_THT; Datasheet: https://www.tracopower.com/products/tec3ui.pdf; Description_: 3W DC/DC industrial converter regulated, 9-75V input, ±12V fixed output voltage, 125mA each output, 2.0kVDC isolation, SIP-8
pins: 1 -Vin, 2 +Vin, 3 Remote, 5 NC, 6 +Vout, 7 Com, 8 -Vout

## TEC3-2423UI
designator *  value TEC3-2423UI  Reference: U
3W DC/DC industrial converter regulated, 9-75V input, ±15V fixed output voltage, 100mA each output, 2.0kVDC isolation, SIP-8; ki_keywords: Traco isolated dc-dc 62368-1 dual; ki_fp_filters: Converter*DCDC*TRACO*TEC3*24xxUI*THT*; Footprint: Converter_DCDC:Converter_DCDC_TRACO_TEC3-24xxUI_THT; Datasheet: https://www.tracopower.com/products/tec3ui.pdf; Description_: 3W DC/DC industrial converter regulated, 9-75V input, ±15V fixed output voltage, 100mA each output, 2.0kVDC isolation, SIP-8
pins: 1 -Vin, 2 +Vin, 3 Remote, 5 NC, 6 +Vout, 7 Com, 8 -Vout

## TEL12-1211
designator *  value TEL12-1211  Reference: U
2.4A Isolated DC/DC Converter Module, fixed 5.1V Output Voltage, 9-18V Input Voltage, 12W; ki_keywords: Traco isolated DC/DC Converter module; ki_fp_filters: *TRACO*TEL12*xxxx*; Footprint: Converter_DCDC:Converter_DCDC_TRACO_TEL12-xxxx_THT; Datasheet: https://www.tracopower.com/sites/default/files/products/datasheets/tel12_datasheet.pdf; Description_: 2.4A Isolated DC/DC Converter Module, fixed 5.1V Output Voltage, 9-18V Input Voltage, 12W
pins: 1 VIN-, 8 NC, 9 VOUT+, 10 VOUT-, 16 VIN+

## TEL12-1212
designator *  value TEL12-1212  Reference: U
1A Isolated DC/DC Converter Module, fixed 12V Output Voltage, 9-18V Input Voltage, 12W; ki_keywords: Traco isolated DC/DC Converter module; ki_fp_filters: *TRACO*TEL12*xxxx*; Footprint: Converter_DCDC:Converter_DCDC_TRACO_TEL12-xxxx_THT; Datasheet: https://www.tracopower.com/sites/default/files/products/datasheets/tel12_datasheet.pdf; Description_: 1A Isolated DC/DC Converter Module, fixed 12V Output Voltage, 9-18V Input Voltage, 12W
pins: 1 VIN-, 8 NC, 9 VOUT+, 10 VOUT-, 16 VIN+

## TEL12-1213
designator *  value TEL12-1213  Reference: U
0.8A Isolated DC/DC Converter Module, fixed 15V Output Voltage, 9-18V Input Voltage, 12W; ki_keywords: Traco isolated DC/DC Converter module; ki_fp_filters: *TRACO*TEL12*xxxx*; Footprint: Converter_DCDC:Converter_DCDC_TRACO_TEL12-xxxx_THT; Datasheet: https://www.tracopower.com/sites/default/files/products/datasheets/tel12_datasheet.pdf; Description_: 0.8A Isolated DC/DC Converter Module, fixed 15V Output Voltage, 9-18V Input Voltage, 12W
pins: 1 VIN-, 8 NC, 9 VOUT+, 10 VOUT-, 16 VIN+

## TEL12-1215
designator *  value TEL12-1215  Reference: U
0.5A Isolated DC/DC Converter Module, fixed 24V Output Voltage, 9-18V Input Voltage, 12W; ki_keywords: Traco isolated DC/DC Converter module; ki_fp_filters: *TRACO*TEL12*xxxx*; Footprint: Converter_DCDC:Converter_DCDC_TRACO_TEL12-xxxx_THT; Datasheet: https://www.tracopower.com/sites/default/files/products/datasheets/tel12_datasheet.pdf; Description_: 0.5A Isolated DC/DC Converter Module, fixed 24V Output Voltage, 9-18V Input Voltage, 12W
pins: 1 VIN-, 8 NC, 9 VOUT+, 10 VOUT-, 16 VIN+

## TEL12-1222
designator *  value TEL12-1222  Reference: U
0.5A Isolated DC/DC Converter Module, fixed ±12V Output Voltage, 9-18V Input Voltage, 12W; ki_keywords: Traco isolated DC/DC Converter module; ki_fp_filters: *TRACO*TEL12*xxxx*; Footprint: Converter_DCDC:Converter_DCDC_TRACO_TEL12-xxxx_THT; Datasheet: https://www.tracopower.com/sites/default/files/products/datasheets/tel12_datasheet.pdf; Description_: 0.5A Isolated DC/DC Converter Module, fixed ±12V Output Voltage, 9-18V Input Voltage, 12W
pins: 1 VIN-, 8 COMMON, 9 VOUT+, 10 VOUT-, 16 VIN+

## TEL12-1223
designator *  value TEL12-1223  Reference: U
0.4A Isolated DC/DC Converter Module, fixed ±15V Output Voltage, 9-18V Input Voltage, 12W; ki_keywords: Traco isolated DC/DC Converter module; ki_fp_filters: *TRACO*TEL12*xxxx*; Footprint: Converter_DCDC:Converter_DCDC_TRACO_TEL12-xxxx_THT; Datasheet: https://www.tracopower.com/sites/default/files/products/datasheets/tel12_datasheet.pdf; Description_: 0.4A Isolated DC/DC Converter Module, fixed ±15V Output Voltage, 9-18V Input Voltage, 12W
pins: 1 VIN-, 8 COMMON, 9 VOUT+, 10 VOUT-, 16 VIN+

## TEL12-2411
designator *  value TEL12-2411  Reference: U
2.4A Isolated DC/DC Converter Module, fixed 5.1V Output Voltage, 18-36V Input Voltage, 12W; ki_keywords: Traco isolated DC/DC Converter module; ki_fp_filters: *TRACO*TEL12*xxxx*; Footprint: Converter_DCDC:Converter_DCDC_TRACO_TEL12-xxxx_THT; Datasheet: https://www.tracopower.com/sites/default/files/products/datasheets/tel12_datasheet.pdf; Description_: 2.4A Isolated DC/DC Converter Module, fixed 5.1V Output Voltage, 18-36V Input Voltage, 12W
pins: 1 VIN-, 8 NC, 9 VOUT+, 10 VOUT-, 16 VIN+

## TEL12-2411WI
designator *  value TEL12-2411WI  Reference: U
2.4A Isolated DC/DC Converter Module, fixed 5.1V Output Voltage, 9-36V Input Voltage, 12W; ki_keywords: Traco isolated DC/DC Converter module; ki_fp_filters: *TRACO*TEL12*xxxx*; Footprint: Converter_DCDC:Converter_DCDC_TRACO_TEL12-xxxx_THT; Datasheet: https://www.tracopower.com/sites/default/files/products/datasheets/tel12wi_datasheet.pdf; Description_: 2.4A Isolated DC/DC Converter Module, fixed 5.1V Output Voltage, 9-36V Input Voltage, 12W
pins: 1 VIN-, 8 NC, 9 VOUT+, 10 VOUT-, 16 VIN+

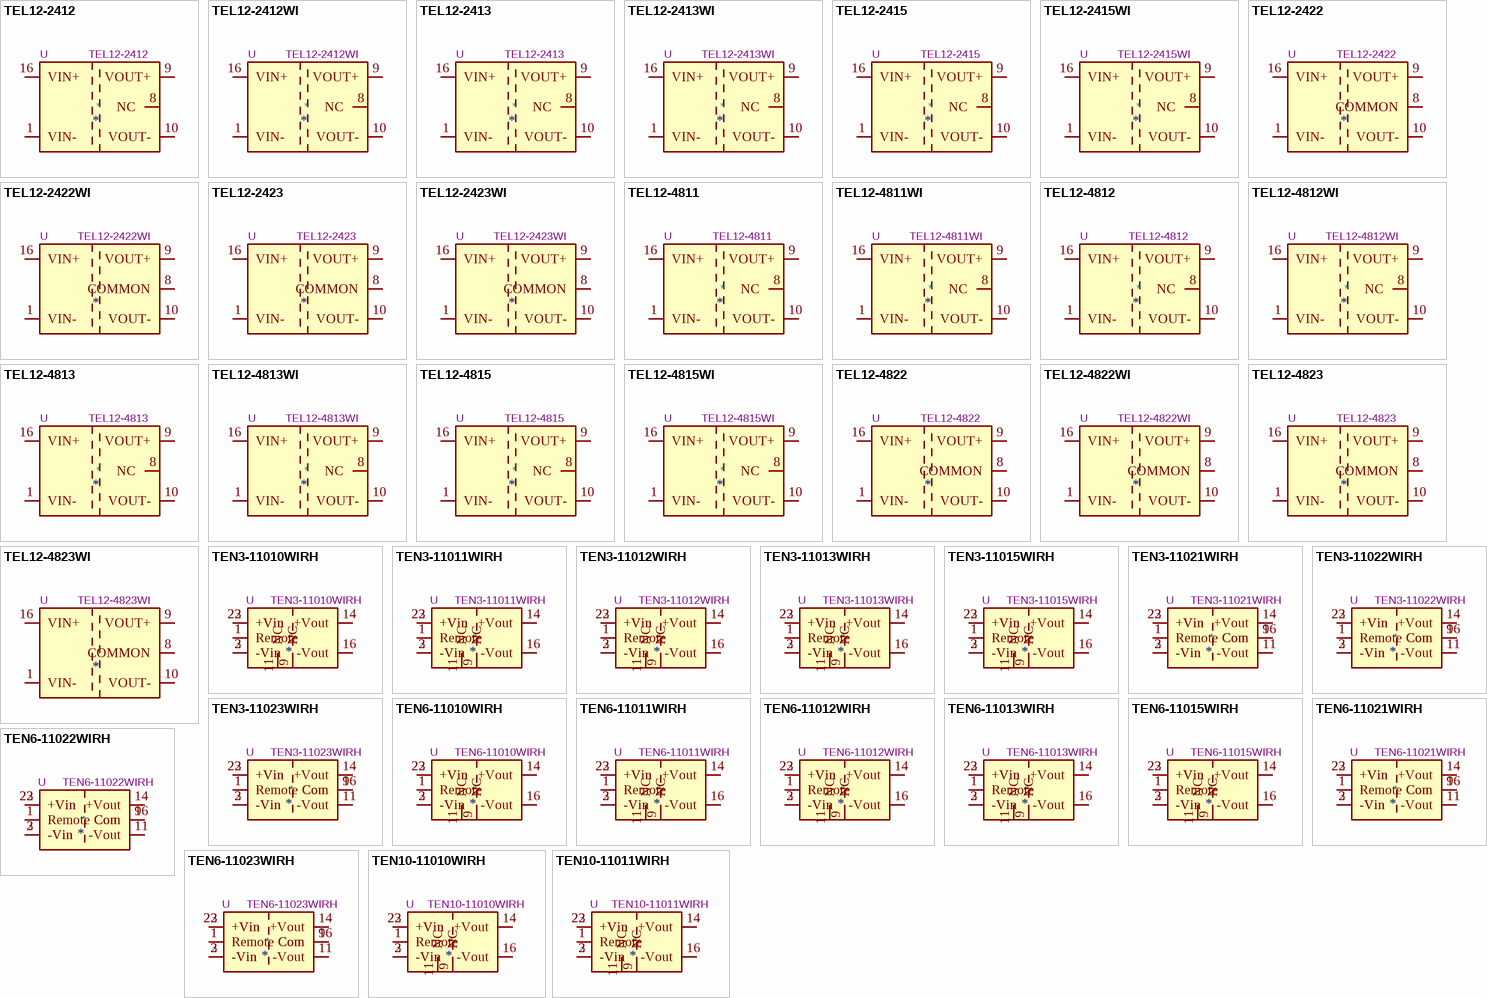
[diagram p15: symbols TEL12-2412 to TEN10-11011WIRH]

## TEL12-2412
designator *  value TEL12-2412  Reference: U
1A Isolated DC/DC Converter Module, fixed 12V Output Voltage, 18-36V Input Voltage, 12W; ki_keywords: Traco isolated DC/DC Converter module; ki_fp_filters: *TRACO*TEL12*xxxx*; Footprint: Converter_DCDC:Converter_DCDC_TRACO_TEL12-xxxx_THT; Datasheet: https://www.tracopower.com/sites/default/files/products/datasheets/tel12_datasheet.pdf; Description_: 1A Isolated DC/DC Converter Module, fixed 12V Output Voltage, 18-36V Input Voltage, 12W
pins: 1 VIN-, 8 NC, 9 VOUT+, 10 VOUT-, 16 VIN+

## TEL12-2412WI
designator *  value TEL12-2412WI  Reference: U
1A Isolated DC/DC Converter Module, fixed 12V Output Voltage, 9-36V Input Voltage, 12W; ki_keywords: Traco isolated DC/DC Converter module; ki_fp_filters: *TRACO*TEL12*xxxx*; Footprint: Converter_DCDC:Converter_DCDC_TRACO_TEL12-xxxx_THT; Datasheet: https://www.tracopower.com/sites/default/files/products/datasheets/tel12wi_datasheet.pdf; Description_: 1A Isolated DC/DC Converter Module, fixed 12V Output Voltage, 9-36V Input Voltage, 12W
pins: 1 VIN-, 8 NC, 9 VOUT+, 10 VOUT-, 16 VIN+

## TEL12-2413
designator *  value TEL12-2413  Reference: U
0.8A Isolated DC/DC Converter Module, fixed 15V Output Voltage, 18-36V Input Voltage, 12W; ki_keywords: Traco isolated DC/DC Converter module; ki_fp_filters: *TRACO*TEL12*xxxx*; Footprint: Converter_DCDC:Converter_DCDC_TRACO_TEL12-xxxx_THT; Datasheet: https://www.tracopower.com/sites/default/files/products/datasheets/tel12_datasheet.pdf; Description_: 0.8A Isolated DC/DC Converter Module, fixed 15V Output Voltage, 18-36V Input Voltage, 12W
pins: 1 VIN-, 8 NC, 9 VOUT+, 10 VOUT-, 16 VIN+

## TEL12-2413WI
designator *  value TEL12-2413WI  Reference: U
0.8A Isolated DC/DC Converter Module, fixed 15V Output Voltage, 9-36V Input Voltage, 12W; ki_keywords: Traco isolated DC/DC Converter module; ki_fp_filters: *TRACO*TEL12*xxxx*; Footprint: Converter_DCDC:Converter_DCDC_TRACO_TEL12-xxxx_THT; Datasheet: https://www.tracopower.com/sites/default/files/products/datasheets/tel12wi_datasheet.pdf; Description_: 0.8A Isolated DC/DC Converter Module, fixed 15V Output Voltage, 9-36V Input Voltage, 12W
pins: 1 VIN-, 8 NC, 9 VOUT+, 10 VOUT-, 16 VIN+

## TEL12-2415
designator *  value TEL12-2415  Reference: U
0.5A Isolated DC/DC Converter Module, fixed 24V Output Voltage, 18-36V Input Voltage, 12W; ki_keywords: Traco isolated DC/DC Converter module; ki_fp_filters: *TRACO*TEL12*xxxx*; Footprint: Converter_DCDC:Converter_DCDC_TRACO_TEL12-xxxx_THT; Datasheet: https://www.tracopower.com/sites/default/files/products/datasheets/tel12_datasheet.pdf; Description_: 0.5A Isolated DC/DC Converter Module, fixed 24V Output Voltage, 18-36V Input Voltage, 12W
pins: 1 VIN-, 8 NC, 9 VOUT+, 10 VOUT-, 16 VIN+

## TEL12-2415WI
designator *  value TEL12-2415WI  Reference: U
0.5A Isolated DC/DC Converter Module, fixed 24V Output Voltage, 9-36V Input Voltage, 12W; ki_keywords: Traco isolated DC/DC Converter module; ki_fp_filters: *TRACO*TEL12*xxxx*; Footprint: Converter_DCDC:Converter_DCDC_TRACO_TEL12-xxxx_THT; Datasheet: https://www.tracopower.com/sites/default/files/products/datasheets/tel12wi_datasheet.pdf; Description_: 0.5A Isolated DC/DC Converter Module, fixed 24V Output Voltage, 9-36V Input Voltage, 12W
pins: 1 VIN-, 8 NC, 9 VOUT+, 10 VOUT-, 16 VIN+

## TEL12-2422
designator *  value TEL12-2422  Reference: U
0.5A Isolated DC/DC Converter Module, fixed ±12V Output Voltage, 18-36V Input Voltage, 12W; ki_keywords: Traco isolated DC/DC Converter module; ki_fp_filters: *TRACO*TEL12*xxxx*; Footprint: Converter_DCDC:Converter_DCDC_TRACO_TEL12-xxxx_THT; Datasheet: https://www.tracopower.com/sites/default/files/products/datasheets/tel12_datasheet.pdf; Description_: 0.5A Isolated DC/DC Converter Module, fixed ±12V Output Voltage, 18-36V Input Voltage, 12W
pins: 1 VIN-, 8 COMMON, 9 VOUT+, 10 VOUT-, 16 VIN+

## TEL12-2422WI
designator *  value TEL12-2422WI  Reference: U
0.5A Isolated DC/DC Converter Module, fixed ±12V Output Voltage, 9-36V Input Voltage, 12W; ki_keywords: Traco isolated DC/DC Converter module; ki_fp_filters: *TRACO*TEL12*xxxx*; Footprint: Converter_DCDC:Converter_DCDC_TRACO_TEL12-xxxx_THT; Datasheet: https://www.tracopower.com/sites/default/files/products/datasheets/tel12wi_datasheet.pdf; Description_: 0.5A Isolated DC/DC Converter Module, fixed ±12V Output Voltage, 9-36V Input Voltage, 12W
pins: 1 VIN-, 8 COMMON, 9 VOUT+, 10 VOUT-, 16 VIN+